# EAGLE library part TEXAS_INSTRUMENTS-BUCK_CONTROLLER-LM5085MM/NOPB (library Module_Regulators)
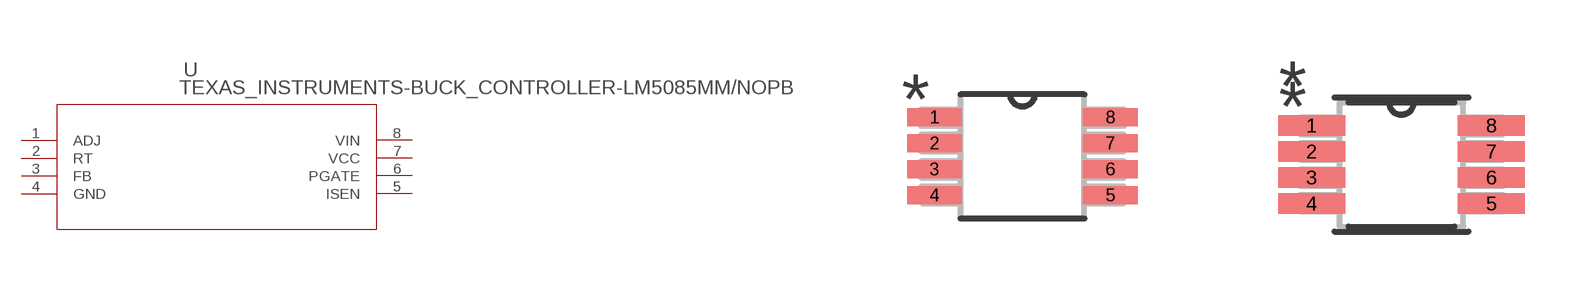
[diagram p45: symbol with the pads of MUA08A; footprints MUA08A, MUA08A-M]

Designator prefix -

## TEXAS_INSTRUMENTS-BUCK_CONTROLLER-LM5085MM/NOPB (MANUFACTURER_PART_NUMBER: LM5085MM/NOPB; VENDOR: National)  [MUA08A]
1  ADJ  pas
2  RT  pas
3  FB  pas
4  GND  pwr
5  ISEN  pas
6  PGATE  pas
7  VCC  pwr
8  VIN  pas

## TEXAS_INSTRUMENTS-BUCK_CONTROLLER-LM5085MM/NOPBMUA08A-M (MANUFACTURER_PART_NUMBER: LM5085MM/NOPB; VENDOR: National)  [MUA08A-M]
Pads as for MUA08A

## TEXAS_INSTRUMENTS-BUCK_CONTROLLER-LM5085MM/NOPBMUA08A-L (MANUFACTURER_PART_NUMBER: LM5085MM/NOPB; VENDOR: National)  [MUA08A-L]
Pads as for MUA08A

## Footprint MUA08A (pad centres in mm)
smd 1.372 x 0.457: 1 -2.197,0.975; 2 -2.197,0.325; 3 -2.197,-0.325; 4 -2.197,-0.975; 5 2.197,-0.975; 6 2.197,-0.325; 7 2.197,0.325; 8 2.197,0.975

## Footprint MUA08A-M (pad centres in mm)
smd 1.676 x 0.508: 1 -2.248,0.975; 2 -2.248,0.325; 3 -2.248,-0.325; 4 -2.248,-0.975; 5 2.248,-0.975; 6 2.248,-0.325; 7 2.248,0.325; 8 2.248,0.975

## Footprint MUA08A-L (pad centres in mm)
smd 1.067 x 0.406: 1 -2.146,0.975; 2 -2.146,0.325; 3 -2.146,-0.325; 4 -2.146,-0.975; 5 2.146,-0.975; 6 2.146,-0.325; 7 2.146,0.325; 8 2.146,0.975